# EAGLE library part XFMR_NC14 (library wheat)
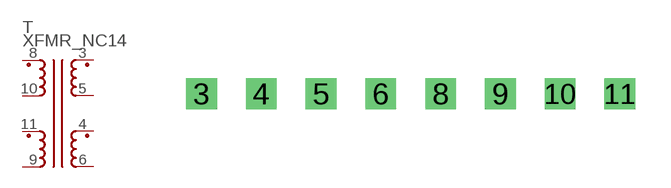
[diagram p206: symbol with the pads of XFMR_NC14; footprint XFMR_NC14]

Designator prefix T

## XFMR_NC14  [XFMR_NC14]
3  S1P  pas
4  S2P  pas
5  S1N  pas
6  S2N  pas
8  P1P  pas
9  P2N  pas
10  P1N  pas
11  P2P  pas

## Footprint XFMR_NC14 (pad centres in mm)
drill 0.8 square: 3 0,0; 4 2.54,0; 5 5.08,0; 6 7.62,0; 8 10.16,0; 9 12.7,0; 10 15.24,0; 11 17.78,0